# Altium footprint library N-Header 8X2.PcbLib: 1 footprints
Each footprint in its own frame and in the unit in brackets; x right, y up, seen from the top. Pads: shape width x height; smd on the part's side, far side on the other; paste and mask are expansions set on the pad; w line width, h text height; cw(c..) or ccw(c..) is an arc to the next point about the centre after c.
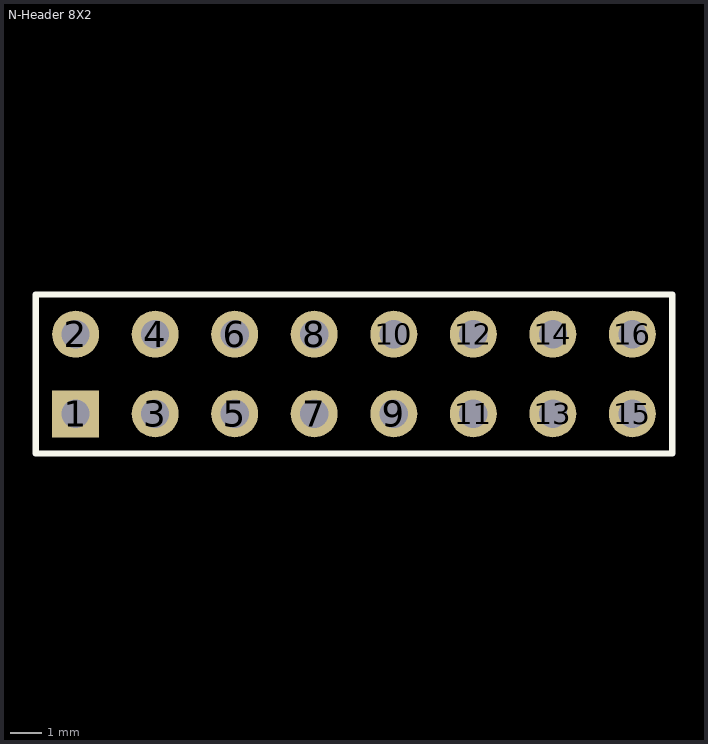
[diagram p0: the footprint, top view; thin cyan lines are the x and y axes]

## N-Header 8X2 [mm]
pads (16):
  rect 1.5x1.5 hole 0.9: 1(46.482,29.083)
  round 1.5 hole 0.9: 2(46.482,31.623) 3(49.022,29.083) 4(49.022,31.623) 5(51.562,29.083) 6(51.562,31.623) 7(54.102,29.083) 8(54.102,31.623) 9(56.642,29.083) 10(56.642,31.623) 11(59.182,29.083) 12(59.182,31.623) 13(61.722,29.083) 14(61.722,31.623) 15(64.262,29.083) 16(64.262,31.623)
Top Overlay:
  lines w0.2: 45.212,27.813 45.212,32.893 65.532,32.893 65.532,27.813 45.212,27.813
3D body "2x8 TH Vert 100mil.step": height 8.38, standoff -3.3, extent 45.212,27.813 65.532,32.893